# EAGLE library part PIC32MX110 (library pic32mx110)
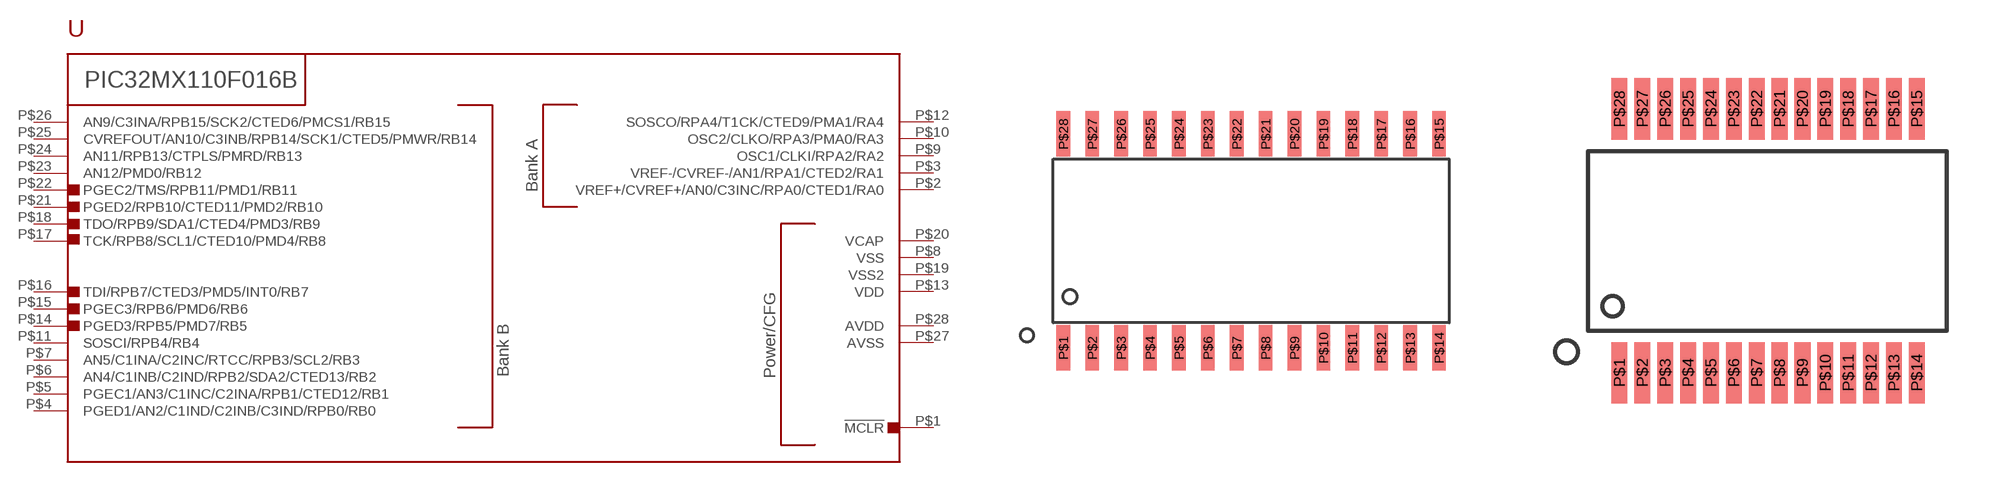
[diagram p0: symbol with the pads of SOIC-28; footprints SOIC-28, SSOP-28]

Designator prefix -

## PIC32MX110  [SOIC-28]
P$1  !MCLR
P$2  VREF+/CVREF+/AN0/C3INC/RPA0/CTED1/RA0
P$3  VREF-/CVREF-/AN1/RPA1/CTED2/RA1
P$4  PGED1/AN2/C1IND/C2INB/C3IND/RPB0/RB0
P$5  PGEC1/AN3/C1INC/C2INA/RPB1/CTED12/RB1
P$6  AN4/C1INB/C2IND/RPB2/SDA2/CTED13/RB2
P$7  AN5/C1INA/C2INC/RTCC/RPB3/SCL2/RB3
P$8  VSS
P$9  OSC1/CLKI/RPA2/RA2
P$10  OSC2/CLKO/RPA3/PMA0/RA3
P$11  SOSCI/RPB4/RB4
P$12  SOSCO/RPA4/T1CK/CTED9/PMA1/RA4
P$13  VDD
P$14  PGED3/RPB5/PMD7/RB5
P$15  PGEC3/RPB6/PMD6/RB6
P$16  TDI/RPB7/CTED3/PMD5/INT0/RB7
P$17  TCK/RPB8/SCL1/CTED10/PMD4/RB8
P$18  TDO/RPB9/SDA1/CTED4/PMD3/RB9
P$19  VSS2
P$20  VCAP
P$21  PGED2/RPB10/CTED11/PMD2/RB10
P$22  PGEC2/TMS/RPB11/PMD1/RB11
P$23  AN12/PMD0/RB12
P$24  AN11/RPB13/CTPLS/PMRD/RB13
P$25  CVREFOUT/AN10/C3INB/RPB14/SCK1/CTED5/PMWR/RB14
P$26  AN9/C3INA/RPB15/SCK2/CTED6/PMCS1/RB15
P$27  AVSS
P$28  AVDD

## PIC32MX110SMALLER  [SSOP-28]
Pads as for SOIC-28

## PIC32MX110QFN  [28-QFN]
P$1  PGED1/AN2/C1IND/C2INB/C3IND/RPB0/RB0
P$2  PGEC1/AN3/C1INC/C2INA/RPB1/CTED12/RB1
P$3  AN4/C1INB/C2IND/RPB2/SDA2/CTED13/RB2
P$4  AN5/C1INA/C2INC/RTCC/RPB3/SCL2/RB3
P$5  VSS
P$6  OSC1/CLKI/RPA2/RA2
P$7  OSC2/CLKO/RPA3/PMA0/RA3
P$8  SOSCI/RPB4/RB4
P$9  SOSCO/RPA4/T1CK/CTED9/PMA1/RA4
P$10  VDD
P$11  PGED3/RPB5/PMD7/RB5
P$12  PGEC3/RPB6/PMD6/RB6
P$13  TDI/RPB7/CTED3/PMD5/INT0/RB7
P$14  TCK/RPB8/SCL1/CTED10/PMD4/RB8
P$15  TDO/RPB9/SDA1/CTED4/PMD3/RB9
P$16  VSS2
P$17  VCAP
P$18  PGED2/RPB10/CTED11/PMD2/RB10
P$19  PGEC2/TMS/RPB11/PMD1/RB11
P$20  AN12/PMD0/RB12
P$21  AN11/RPB13/CTPLS/PMRD/RB13
P$22  CVREFOUT/AN10/C3INB/RPB14/SCK1/CTED5/PMWR/RB14
P$23  AN9/C3INA/RPB15/SCK2/CTED6/PMCS1/RB15
P$24  AVSS
P$25  AVDD
P$26  !MCLR
P$27  VREF+/CVREF+/AN0/C3INC/RPA0/CTED1/RA0
P$28  VREF-/CVREF-/AN1/RPA1/CTED2/RA1
P$29  VDD

## Footprint SOIC-28 (pad centres in mm)
smd 0.6 x 2: P$1 -6.35,0; P$2 -5.08,0; P$3 -3.81,0; P$4 -2.54,0; P$5 -1.27,0; P$6 0,0; P$7 1.27,0; P$8 2.54,0; P$9 3.81,0; P$10 5.08,0; P$11 6.35,0; P$12 7.62,0; P$13 8.89,0; P$14 10.16,0; P$15 10.16,9.4; P$16 8.89,9.4; P$17 7.62,9.4; P$18 6.35,9.4; P$19 5.08,9.4; P$20 3.81,9.4; P$21 2.54,9.4; P$22 1.27,9.4; P$23 0,9.4; P$24 -1.27,9.4; P$25 -2.54,9.4; P$26 -3.81,9.4; P$27 -5.08,9.4; P$28 -6.35,9.4

## Footprint SSOP-28 (pad centres in mm)
smd 0.45 x 1.75: P$1 0,0; P$2 0.65,0; P$3 1.3,0; P$4 1.95,0; P$5 2.6,0; P$6 3.25,0; P$7 3.9,0; P$8 4.55,0; P$9 5.2,0; P$10 5.85,0; P$11 6.5,0; P$12 7.15,0; P$13 7.8,0; P$14 8.45,0; P$15 8.45,7.5; P$16 7.8,7.5; P$17 7.15,7.5; P$18 6.5,7.5; P$19 5.85,7.5; P$20 5.2,7.5; P$21 4.55,7.5; P$22 3.9,7.5; P$23 3.25,7.5; P$24 2.6,7.5; P$25 1.95,7.5; P$26 1.3,7.5; P$27 0.65,7.5; P$28 0,7.5

## Footprint 28-QFN (pad centres in mm)
smd 1 x 0.37: P$1 -2.85,1.95; P$2 -2.85,1.3; P$3 -2.85,0.65; P$4 -2.85,0; P$5 -2.85,-0.65; P$6 -2.85,-1.3; P$7 -2.85,-1.95; P$15 2.85,-1.95; P$16 2.85,-1.3; P$17 2.85,-0.65; P$18 2.85,0; P$19 2.85,0.65; P$20 2.85,1.3; P$21 2.85,1.95
smd 0.37 x 1: P$8 -1.95,-2.85; P$9 -1.3,-2.85; P$10 -0.65,-2.85; P$11 0,-2.85; P$12 0.65,-2.85; P$13 1.3,-2.85; P$14 1.95,-2.85; P$22 1.95,2.85; P$23 1.3,2.85; P$24 0.65,2.85; P$25 0,2.85; P$26 -0.65,2.85; P$27 -1.3,2.85; P$28 -1.95,2.85
smd 4.25 x 4.25: P$29 0,0